# EAGLE library part MG2639 (library MG2639)
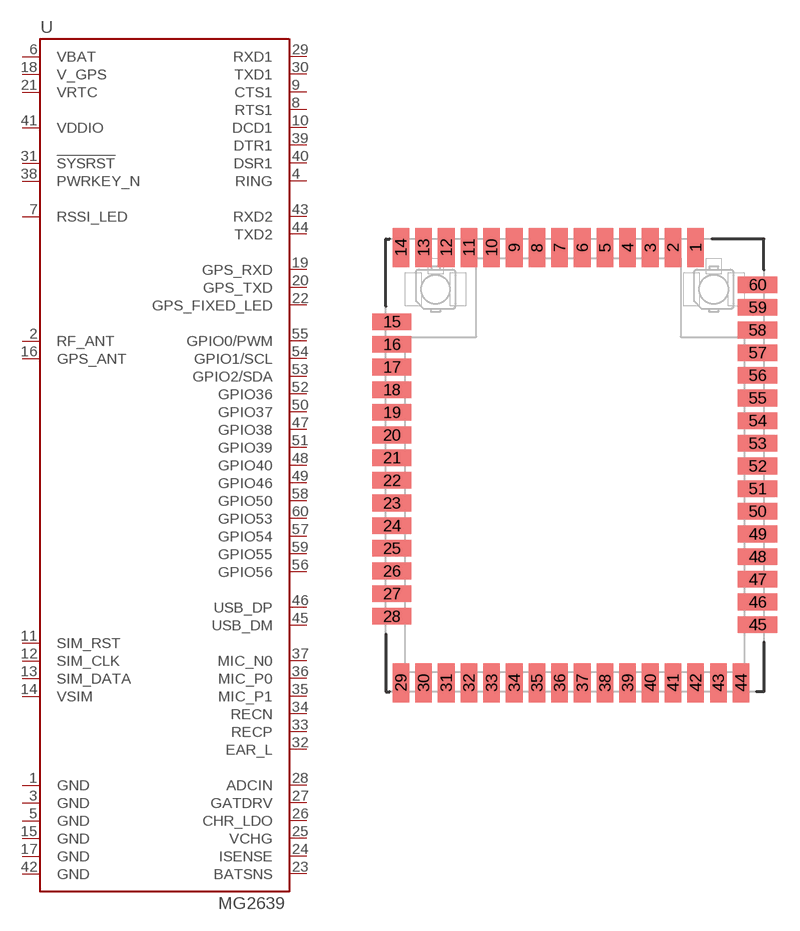
[diagram p0: symbol with the pads of MG2639; footprint MG2639]

Designator prefix U

## MG2639V3 (PROD_ID: GPS-12331)  [MG2639]
1  GND  pwr
2  RF_ANT
3  GND  pwr
4  RING  out
5  GND  pwr
6  VBAT  pwr
7  RSSI_LED  out
8  RTS1  out
9  CTS1  in
10  DCD1  out
11  SIM_RST  out
12  SIM_CLK  out
13  SIM_DATA
14  VSIM  out
15  GND  pwr
16  GPS_ANT  in
17  GND  pwr
18  V_GPS  pwr
19  GPS_RXD  in
20  GPS_TXD  out
21  VRTC  pwr
22  GPS_FIXED_LED  out
23  BATSNS  in
24  ISENSE  in
25  VCHG  pwr
26  CHR_LDO  out
27  GATDRV  out
28  ADCIN  in
29  RXD1  in
30  TXD1  out
31  !SYSRST  in
32  EAR_L  out
33  RECP  out
34  RECN  out
35  MIC_P1  in
36  MIC_P0  in
37  MIC_N0  in
38  PWRKEY_N  in
39  DTR1  in
40  DSR1  out
41  VDDIO  out
42  GND  pwr
43  RXD2  in
44  TXD2  out
45  USB_DM
46  USB_DP
47  GPIO38
48  GPIO40
49  GPIO46
50  GPIO37
51  GPIO39
52  GPIO36
53  GPIO2/SDA
54  GPIO1/SCL
55  GPIO0/PWM
56  GPIO56
57  GPIO54
58  GPIO50
59  GPIO55
60  GPIO53

## Footprint MG2639 (pad centres in mm)
smd 1.1 x 2.6: 1 8,14.4; 2 6.5,14.4; 3 5,14.4; 4 3.5,14.4; 5 2,14.4; 6 0.5,14.4; 7 -1,14.4; 8 -2.5,14.4; 9 -4,14.4; 10 -5.5,14.4; 11 -7,14.4; 12 -8.5,14.4; 13 -10,14.4; 14 -11.5,14.4; 29 -11.5,-14.4; 30 -10,-14.4; 31 -8.5,-14.4; 32 -7,-14.4; 33 -5.5,-14.4; 34 -4,-14.4; 35 -2.5,-14.4; 36 -1,-14.4; 37 0.5,-14.4; 38 2,-14.4; 39 3.5,-14.4; 40 5,-14.4; 41 6.5,-14.4; 42 8,-14.4; 43 9.5,-14.4; 44 11,-14.4
smd 2.6 x 1.1: 15 -12.1,9.5; 16 -12.1,8; 17 -12.1,6.5; 18 -12.1,5; 19 -12.1,3.5; 20 -12.1,2; 21 -12.1,0.5; 22 -12.1,-1; 23 -12.1,-2.5; 24 -12.1,-4; 25 -12.1,-5.5; 26 -12.1,-7; 27 -12.1,-8.5; 28 -12.1,-10; 45 12.1,-10.55; 46 12.1,-9.05; 47 12.1,-7.55; 48 12.1,-6.05; 49 12.1,-4.55; 50 12.1,-3.05; 51 12.1,-1.55; 52 12.1,-0.05; 53 12.1,1.45; 54 12.1,2.95; 55 12.1,4.45; 56 12.1,5.95; 57 12.1,7.45; 58 12.1,8.95; 59 12.1,10.45; 60 12.1,11.95